# EAGLE library part IS42S164/81600 (library 4ms-main-parts)
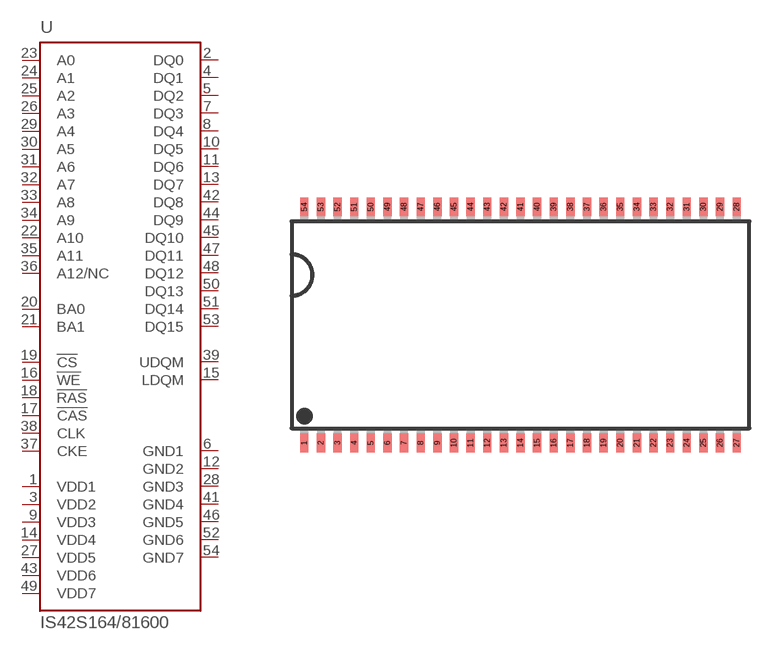
[diagram p32: symbol with the pads of TSOP54-400; footprint TSOP54-400]

Designator prefix U

## IS42S164/81600-TL  [TSOP54-400]
1  VDD1  pwr
2  DQ0  hiz
3  VDD2  pwr
4  DQ1  hiz
5  DQ2  hiz
6  GND1  pwr
7  DQ3  hiz
8  DQ4  hiz
9  VDD3  pwr
10  DQ5  hiz
11  DQ6  hiz
12  GND2  pwr
13  DQ7  hiz
14  VDD4  pwr
15  LDQM  in
16  !WE  in
17  !CAS  in
18  !RAS  in
19  !CS  in
20  BA0  in
21  BA1  in
22  A10  in
23  A0  in
24  A1  in
25  A2  in
26  A3  in
27  VDD5  pwr
28  GND3  pwr
29  A4  in
30  A5  in
31  A6  in
32  A7  in
33  A8  in
34  A9  in
35  A11  in
36  A12/NC  in
37  CKE  in
38  CLK  in
39  UDQM  in
41  GND4  pwr
42  DQ8  hiz
43  VDD6  pwr
44  DQ9  hiz
45  DQ10  hiz
46  GND5  pwr
47  DQ11  hiz
48  DQ12  hiz
49  VDD7  pwr
50  DQ13  hiz
51  DQ14  hiz
52  GND6  pwr
53  DQ15  hiz
54  GND7  pwr

## Footprint TSOP54-400 (pad centres in mm)
54-Pin Plastic TSOP (400 mil) Source: http://download.micron.com/pdf/datasheets/dram/sdram/256MSDRAM.pdf
smd 0.4 x 0.9: 1 -10.4,-5.68; 2 -9.6,-5.68; 3 -8.8,-5.68; 4 -8,-5.68; 5 -7.2,-5.68; 6 -6.4,-5.68; 7 -5.6,-5.68; 8 -4.8,-5.68; 9 -4,-5.68; 10 -3.2,-5.68; 11 -2.4,-5.68; 12 -1.6,-5.68; 13 -0.8,-5.68; 14 0,-5.68; 15 0.8,-5.68; 16 1.6,-5.68; 17 2.4,-5.68; 18 3.2,-5.68; 19 4,-5.68; 20 4.8,-5.68; 21 5.6,-5.68; 22 6.4,-5.68; 23 7.2,-5.68; 24 8,-5.68; 25 8.8,-5.68; 26 9.6,-5.68; 27 10.4,-5.68; 28 10.4,5.68; 29 9.6,5.68; 30 8.8,5.68; 31 8,5.68; 32 7.2,5.68; 33 6.4,5.68; 34 5.6,5.68; 35 4.8,5.68; 36 4,5.68; 37 3.2,5.68; 38 2.4,5.68; 39 1.6,5.68; 40 0.8,5.68; 41 0,5.68; 42 -0.8,5.68; 43 -1.6,5.68; 44 -2.4,5.68; 45 -3.2,5.68; 46 -4,5.68; 47 -4.8,5.68; 48 -5.6,5.68; 49 -6.4,5.68; 50 -7.2,5.68; 51 -8,5.68; 52 -8.8,5.68; 53 -9.6,5.68; 54 -10.4,5.68